# EAGLE library part BMA400_BMA400 (library Mini-Lora_v2_2)
Ultra low power, 12-bit digital triaxial accelerometer
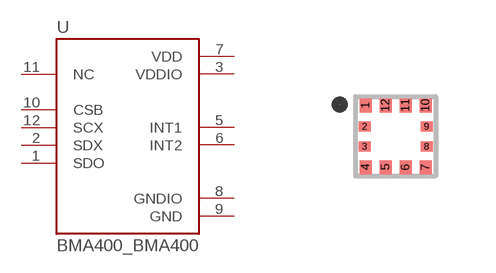
[diagram p1: symbol with the pads of BMA400_IC_BMA400; footprint BMA400_IC_BMA400]

Designator prefix U

## BMA400_BMA400 (AVAILABILITY: Unavailable; DESCRIPTION: Ultra low power, 12-bit digital triaxial accelerometer; MF: Bosch Sensortec; MP: BMA400; PACKAGE: LGA-12 Bosch Tools; PRICE: None)  [BMA400_IC_BMA400]
1  SDO
2  SDX
3  VDDIO  pwr
5  INT1
6  INT2
7  VDD  pwr
8  GNDIO  pwr
9  GND  pwr
10  CSB  in
11  NC  in
12  SCX  in

## Footprint BMA400_IC_BMA400 (pad centres in mm)
smd 0.3 x 0.35: 1 -0.75,0.775; 4 -0.75,-0.775; 5 -0.25,-0.775; 6 0.25,-0.775; 7 0.75,-0.775; 10 0.75,0.775; 11 0.25,0.775; 12 -0.25,0.775
smd 0.3 x 0.25: 2 -0.775,0.25; 3 -0.775,-0.25; 8 0.775,-0.25; 9 0.775,0.25